# Altium schematic symbol library STU.SchLib: 1 symbol
Pins are listed as number, name and electrical type; pins without a type are passive.

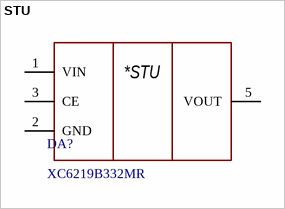
[diagram p0: symbol STU]

## STU
designator DA?, comment XC6219B332MR
LDO Voltage Regulators 0.3A, 3.3V
footprint SOT23-5 (pitch 0.95 mm)
pins: 1 VIN (power), 2 GND (power), 3 CE, 5 VOUT
text: *STU